# Altium footprint library 10K_Poti.PcbLib: 1 footprints
Each footprint in its own frame and in the unit in brackets; x right, y up, seen from the top. Pads: shape width x height; smd on the part's side, far side on the other; paste and mask are expansions set on the pad; w line width, h text height; cw(c..) or ccw(c..) is an arc to the next point about the centre after c.
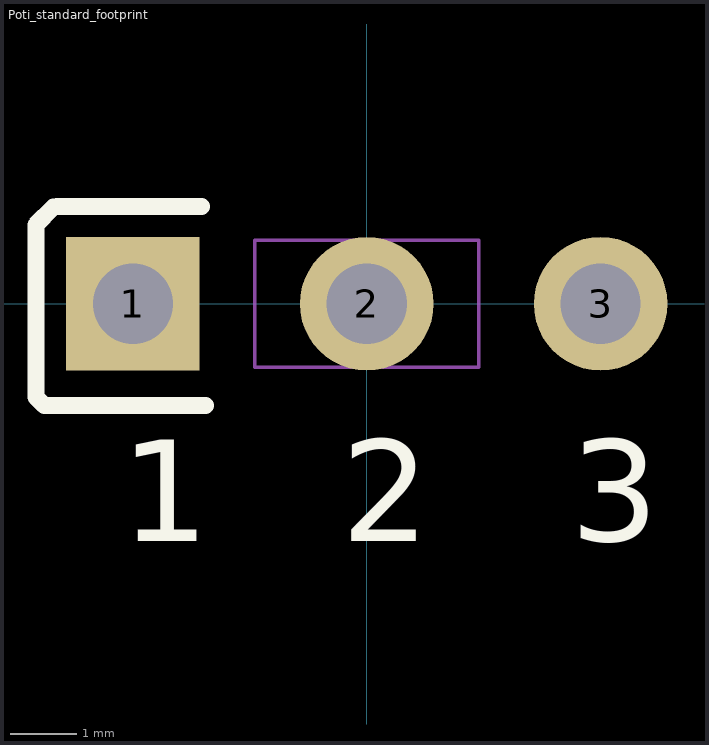
[diagram p0: the footprint, top view; thin cyan lines are the x and y axes]

## Poti_standard_footprint [mm]
pads (3):
  rect 2x2 hole 1.2: 1(-3.5,0)
  round 2 hole 1.2: 2(0,0) 3(3.5,0)
Top Overlay:
  lines w0.254: -4.687,1.448 -4.953,1.182 -4.953,-1.397 -4.826,-1.524 -4.572,-1.524 -2.413,-1.524 ; -4.635,1.454 -2.476,1.454
  text "1" at -3.683,-3.556 h1.52
  text "2" at -0.381,-3.556 h1.52
  text "3" at 3.048,-3.556 h1.52
Mechanical 20:
  lines w0.05: -1.675,-0.95 -1.675,0.95 1.675,0.95 1.675,-0.95 -1.675,-0.95